# Altium footprint library PcbLib1-GATE-DRV-SMPS-1.PcbLib: 45 footprints (part 1 of 3)
Each footprint in its own frame and in the unit in brackets; x right, y up, seen from the top. Pads: shape width x height; smd on the part's side, far side on the other; paste and mask are expansions set on the pad; w line width, h text height; cw(c..) or ccw(c..) is an arc to the next point about the centre after c.
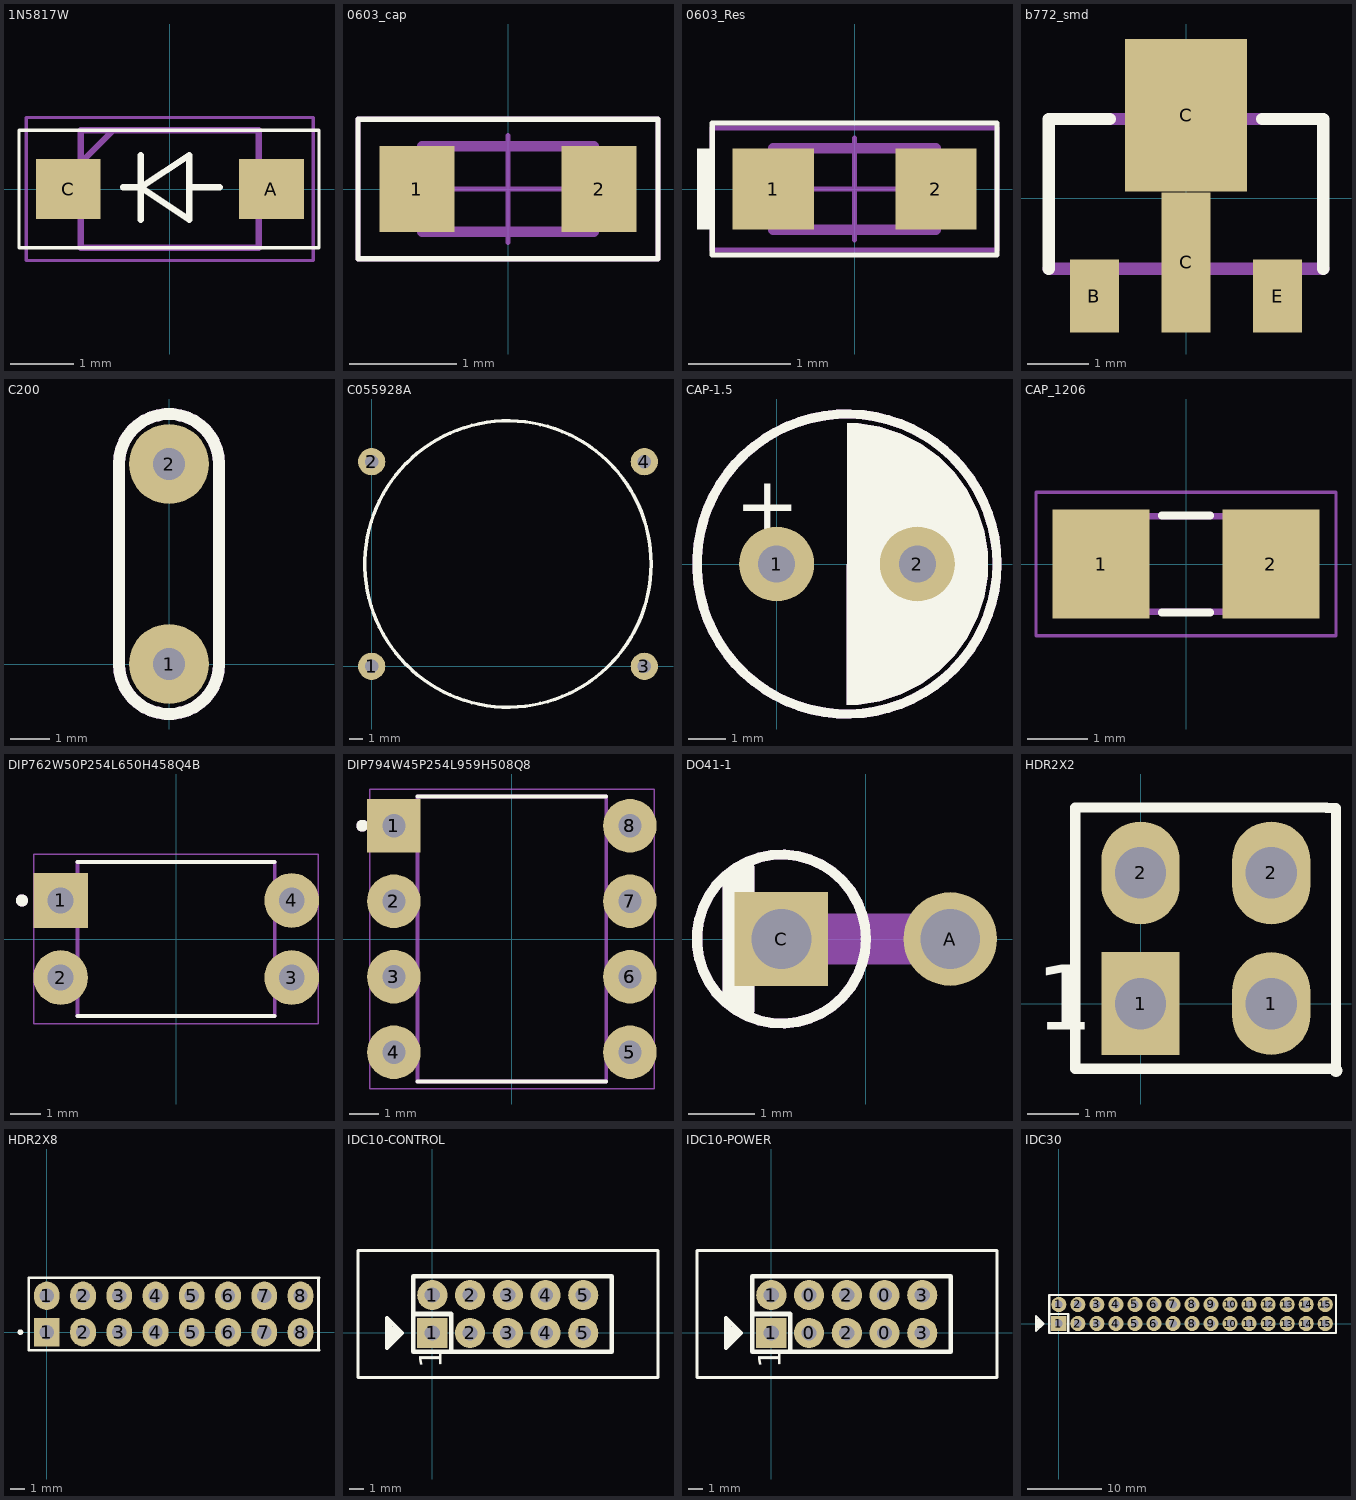
[diagram p0: the footprints below, top view; thin cyan lines are the x and y axes]

## 1N5817W [mm]
pads (2):
  rect 1.02x0.94 smd: A(1.6,0) C(-1.6,0)
Top Overlay:
  lines w0.05: -2.375,-0.925 -2.025,-0.925 1.4,-0.925 2.35,-0.925 2.35,0.925 1.4,0.925 -2.11,0.925 -2.375,0.925 -2.375,-0.925
  lines w0.1: -0.737,0.025 -0.457,0.025 ; -0.457,-0.483 -0.457,0.533 ; 0.305,0.025 0.787,0.025 ; -0.457,0.025 0.305,0.533 0.305,-0.483 -0.457,0.025
Mechanical 15:
  lines w0.1: -1.4,0.415 -0.89,0.925 ; -1.4,-0.925 -1.4,0.925 1.4,0.925 1.4,-0.925 -1.4,-0.925
Mechanical 20:
  lines w0.05: -2.26,-1.125 -2.26,1.125 2.26,1.125 2.26,-1.125 -2.26,-1.125
3D body "1N5817W-T.stp": height 1.35, standoff 0, extent -1.85,-0.925 1.85,0.925

## 0603_cap [mm] "Soft Termination MLCC, body 1.60x0.80mm"
height 0.8
pads (2):
  rect 0.7x0.8 smd: 1(-0.85,0) 2(0.85,0)
Top Overlay:
  lines w0.05: -1.4,-0.65 -1.4,0.65 1.4,0.65 1.4,-0.65 -1.4,-0.65
Top Courtyard:
  lines w0.05: -0.5,0 0.5,0 ; 0,-0.5 0,0.5 ; -1.4,-0.65 1.4,-0.65 1.4,0.65 -1.4,0.65 -1.4,-0.65
Top Component Outline:
  lines w0.1: -0.8,-0.4 -0.8,0.4 0.8,0.4 0.8,-0.4 -0.8,-0.4
3D body "CAPC1608X08N.step": height 0.8, standoff 0, extent -0.8,-0.4 0.8,0.4

## 0603_Res [mm] "SMD Mono-color Chip LED, body 1.6x0.8mm"
height 0.7
pads (2):
  rect 0.8x0.8 smd: 1(-0.8,0) 2(0.8,0)
Top Overlay:
  rectangle: -1.55,-0.4 -1.4,0.4
  lines w0.05: -1.4,-0.65 -1.4,0.65 1.4,0.65 1.4,-0.65 -1.4,-0.65
Top Courtyard:
  lines w0.05: -0.5,0 0.5,0 ; 0,-0.5 0,0.5 ; -1.4,-0.6 1.4,-0.6 1.4,0.6 -1.4,0.6 -1.4,-0.6
Top Component Outline:
  rectangle: -0.8,-0.4 -0.5,0.4
  lines w0.1: -0.8,-0.4 0.8,-0.4 0.8,0.4 -0.8,0.4 -0.8,-0.4
3D body "STP_580060716001 (rev1).stp": height 0.35, standoff 0, extent -0.8,-0.4 0.8,0.4

## b772_smd [mm]
pads (4):
  rect 0.8x1.2 smd: B(-1.5,-1.6) E(1.5,-1.6)
  rect 0.8x2.3 smd paste-2 mask+0: C(0,-1.05)
  rect 2x2.5 smd: C(0,1.36)
Top Overlay:
  lines w0.203: -2.25,-1.15 -2.25,1.3 -1.25,1.3 ; 1.25,1.3 2.25,1.3 2.25,-1.15
Top Paste:
  region: 0.4,-2.203 -0.401,-2.203 -0.401,-1 0.4,-1
Top Solder:
  region: 0.5,-2.304 -0.501,-2.304 -0.501,-0.9 0.5,-0.9
Mechanical 13:
  region: -1.27,-2.008 -1.727,-2.008 -1.727,-1.17 -1.27,-1.17
  region: 1.727,-2.012 1.272,-2.012 1.272,-1.17 1.727,-1.17
  region: 0.279,-2.01 -0.28,-2.01 -0.28,-1.17 0.279,-1.17
  region: 0.787,1.675 0.787,1.395 -0.787,1.395 -0.787,1.675 -0.356,2.107 0.356,2.107
  lines w0.203: -2.25,-1.15 2.25,-1.15 ; -1.25,1.3 1.25,1.3 ; -0.787,1.395 0.787,1.395 0.787,1.675 0.356,2.107 -0.356,2.107 -0.787,1.675 -0.787,1.395
3D body "FCX790ATA.STEP": height 1.6, standoff 0, extent -2.25,-2.075 2.25,2.055

## C200 [mil]
pads (2):
  round 80 hole 32: 1(0,0) 2(0,200)
Top Overlay:
  lines w12: -50,0 ccw(c0,0) 50,0 50,200 ccw(c0,200) -50,200 -50,0
Mechanical 29:
  lines w12: -50,0 ccw(c0,0) 50,0 50,200 ccw(c0,200) -50,200 -50,0
  text "'.Designator''" at -100,-75 h27.56
3D body "CAP_DISC_4x3_YL.stp": height 176.01, standoff -118.11, extent -65.11,-5.27 53,209.27

## C055928A [mm]
pads (4):
  round 2 hole 1: 1(0,0) 2(0,15) 3(20,0) 4(20,15)
Top Overlay:
  circle w0.254: c10,7.5 r10.5
Mechanical 29:
  text "'.Designator''" at 6,7 h0.7

## CAP-1.5 [mil]
pads (2):
  round 80 hole 39.37: 1(0,0) 2(150,0)
Top Overlay:
  circle w10: c75,0 r160
  region: 75,-150 86.81,-150 110.12,-146.31 132.58,-139.01 153.62,-128.29 172.72,-114.41 189.41,-97.72 203.29,-78.62 214.01,-57.58 221.31,-35.12 225,-11.81 225,11.81 221.31,35.12 214.01,57.58 203.29,78.62 189.41,97.72 172.72,114.41 153.62,128.29 132.58,139.01 110.12,146.31 86.81,150 75,150
  text "+" at -44,34 h60
Mechanical 29:
  circle w10: c75,0 r160
  region: 75,-150 86.81,-150 110.12,-146.31 132.58,-139.01 153.62,-128.29 172.72,-114.41 189.41,-97.72 203.29,-78.62 214.01,-57.58 221.31,-35.12 225,-11.81 225,11.81 221.31,35.12 214.01,57.58 203.29,78.62 189.41,97.72 172.72,114.41 153.62,128.29 132.58,139.01 110.12,146.31 86.81,150 75,150
  text "'.Designator''" at -90,-225 h27.56
  text "+" at -44,34 h60
3D body "CAP_RAD_D8x11.5_POL_BK.stp": height 551.18, standoff -59.06, extent -93.32,-167.28 241.32,167.36

## CAP_1206 [mm]
pads (2):
  rect 1.6x1.8 smd: 1(-1.4,0) 2(1.4,0)
Top Overlay:
  lines w0.127: -0.4,-0.8 0.4,-0.8 ; -0.4,0.8 0.4,0.8
Mechanical 13:
  region: 1.702,-0.849 0.952,-0.849 0.952,0.851 1.702,0.851
  region: -0.952,-0.851 -1.702,-0.851 -1.702,0.849 -0.952,0.849
  lines w0.102: -0.965,-0.787 0.965,-0.787 ; -0.965,0.787 0.965,0.787
Mechanical 15:
  lines w0.051: -2.473,-1.183 -2.473,1.183 2.473,1.183 2.473,-1.183 -2.473,-1.183
3D body "step_temp.STEP": height 1.5, standoff 0, extent -1.6,-0.8 1.6,0.8

## DIP762W50P254L650H458Q4B [mm]
pads (4):
  rect 1.8x1.8 hole 0.85: 1(-3.81,1.27)
  round 1.8 hole 0.85: 2(-3.81,-1.27) 3(3.81,-1.27) 4(3.81,1.27)
Top Overlay:
  circle w0.2: c-5.08,1.27 r0.1
  lines w0.127: -3.25,-2.54 3.25,-2.54 ; -3.25,2.54 3.25,2.54
Mechanical 13:
  lines w0.127: -3.25,-2.54 -3.25,2.54 3.25,2.54 3.25,-2.54 -3.25,-2.54
Mechanical 15:
  lines w0.05: -4.69,-2.79 4.69,-2.79 4.69,2.79 -4.69,2.79 -4.69,-2.79
Mechanical 29:
  circle w0.2: c-5.08,1.27 r0.1
  lines w0.127: -3.25,-2.54 3.25,-2.54 ; -3.25,2.54 3.25,2.54
  text "'.Designator''" at -4.572,-3.937 h0.7
3D body "PC817A--3DModel-STEP-56544.STEP": height 4.01, standoff -4.09, extent -3.94,-2.29 3.94,2.29

## DIP794W45P254L959H508Q8 [mm]
pads (16):
  rect 1.8x1.8 hole 0.78: 1(-3.97,3.81) 1(-3.97,3.81)
  round 1.8 hole 0.78: 2(-3.97,1.27) 2(-3.97,1.27) 3(-3.97,-1.27) 3(-3.97,-1.27) 4(-3.97,-3.81) 4(-3.97,-3.81) 5(3.97,-3.81) 5(3.97,-3.81) 6(3.97,-1.27) 6(3.97,-1.27) 7(3.97,1.27) 7(3.97,1.27) 8(3.97,3.81) 8(3.97,3.81)
Top Overlay:
  circle w0.2: c-5.035,3.81 r0.1
  lines w0.127: -3.175,-4.795 3.175,-4.795 ; -3.175,4.795 3.175,4.795
Mechanical 13:
  circle w0.2: c-5.035,3.81 r0.1
  lines w0.127: -3.175,-4.795 -3.175,4.795 3.175,4.795 3.175,-4.795 -3.175,-4.795
Mechanical 15:
  lines w0.05: -4.785,-5.045 -4.785,5.045 4.785,5.045 4.785,-5.045 -4.785,-5.045
Mechanical 29:
  circle w0.2: c-5.035,3.81 r0.1
  lines w0.127: -3.175,-4.795 3.175,-4.795 ; -3.175,4.795 3.175,4.795
  text "'.Designator''" at -4.445,-6.985 h0.7
3D body "UC3843AN.STEP": height 4.58, standoff -4.31, extent -3.937,-4.794 3.937,4.794

## DO41-1 [mm]
pads (2):
  round 1.408 hole 0.9: A(1.27,0)
  rect 1.408x1.408 hole 0.9: C(-1.27,0)
Top Overlay:
  circle w0.152: c-1.27,0 r1.27
  lines w0.254: -2.032,-0.94 -2.032,0.94 ; -1.803,-1.067 -1.803,1.067
Mechanical 13:
  lines w0.762: -1.143,0 1.27,0
Mechanical 29:
  circle w0.152: c-1.27,0 r1.27
  lines w0.254: -2.032,-0.94 -2.032,0.94 ; -1.803,-1.067 -1.803,1.067
  text "'.Designator''" at -4.318,-2.286 h0.7

## HDR2X2 [mm]
pads (4):
  rect 1.524x2 hole 1: 1(0,0)
  oval 1.524x2 hole 1: 1(2.54,0) 2(0,2.54) 2(2.54,2.54)
Top Overlay:
  lines w0.2: 3.77,-1.27 -1.27,-1.27 -1.27,3.81 3.61,3.81 3.62,3.8 3.8,3.8 3.8,-1.3
  lines w0.254: 3.77,-1.27 3.8,-1.3
  text "1" at -2.032,-0.508 h1.27

## HDR2X8 [mm] "Connector; Header; 4x2 Position"
pads (16):
  rect 1.8x2 hole 1: 1(0,0)
  oval 1.8x2 hole 1: 1(0,2.54) 2(2.54,0) 2(2.54,2.54) 3(5.08,0) 3(5.08,2.54) 4(7.62,0) 4(7.62,2.54) 5(10.16,0) 5(10.16,2.54) 6(12.7,0) 6(12.7,2.54) 7(15.24,0) 7(15.24,2.54) 8(17.78,0) 8(17.78,2.54)
Top Overlay:
  circle w0.2: c-1.85,0 r0.1
  lines w0.2: 19.05,-1.27 19.05,3.81 ; 19.075,-1.27 -1.27,-1.27 -1.27,3.81 19.075,3.81
Bottom Overlay:
  circle w0.2: c-1.85,0 r0.1
3D body "DS1021-2x8SF11.stp": height 8.6, standoff -3, extent -1.245,-1.266 19.075,3.734

## IDC10-CONTROL [mil]
pads (10):
  rect 80x80 hole 40: 1(0,0)
  round 80 hole 40: 1(0,100) 2(100,0) 2(100,100) 3(200,0) 3(200,100) 4(300,0) 4(300,100) 5(400,0) 5(400,100)
Top Overlay:
  lines w7.87: -196.85,-118.11 -196.85,218.11 598,218.11 598,-118.11 -196.85,-118.11
  lines w10: -110,-25 -110,25 ; -100,-15 -100,15 ; -90,-5 -90,5 ; -120,-40 -80,0 -120,40 -120,-40
  lines w12: -50,50 50,50 50,-50 ; -50,-50 -50,150 475,150 475,-50 -50,-50
  text "1" at 25,-94 h60
3D body "2x6 shrouded header v2.step": height 358.27, standoff -110.24, extent -196.6,-121.23 702.61,233.1

## IDC10-POWER [mil]
pads (10):
  round 80 hole 40: 0(100,0) 0(100,100) 0(300,0) 0(300,100) 1(0,100) 2(200,0) 2(200,100) 3(400,0) 3(400,100)
  rect 80x80 hole 40: 1(0,0)
Top Overlay:
  lines w7.87: -196.85,-118.11 598,-118.11 598,218.11 -196.85,218.11 -196.85,-118.11
  lines w10: -110,-25 -110,25 ; -100,-15 -100,15 ; -90,-5 -90,5 ; -120,-40 -120,40 -80,0 -120,-40
  lines w12: -50,50 50,50 50,-50 ; -50,-50 475,-50 475,150 -50,150 -50,-50
  text "1" at 25,-94 h60
3D body "2x6 shrouded header v2.step": height 358.27, standoff -110.24, extent -196.6,-121.23 702.61,233.1

## IDC30 [mil]
pads (30):
  rect 80x80 hole 40: 1(0,0)
  round 80 hole 40: 1(0,100) 2(100,0) 2(100,100) 3(200,0) 3(200,100) 4(300,0) 4(300,100) 5(400,0) 5(400,100) 6(500,0) 6(500,100) 7(600,0) 7(600,100) 8(700,0) 8(700,100) 9(800,0) 9(800,100) 10(900,0) 10(900,100) 11(1000,0) 11(1000,100) 12(1100,0) 12(1100,100) 13(1200,0) 13(1200,100) 14(1300,0) 14(1300,100) 15(1400,0) 15(1400,100)
Top Overlay:
  lines w10: -110,-25 -110,25 ; -100,-15 -100,15 ; -90,-5 -90,5 ; -120,-40 -80,0 -120,40 -120,-40
  lines w12: -50,50 50,50 50,-50 ; -50,-50 1456.69,-50 1456.69,150 -50,150 -50,-50